# Altium footprint library STL.PcbLib: 40 footprints (part 3 of 3)
Each footprint in its own frame and in the unit in brackets; x right, y up, seen from the top. Pads: shape width x height; smd on the part's side, far side on the other; paste and mask are expansions set on the pad; w line width, h text height; cw(c..) or ccw(c..) is an arc to the next point about the centre after c.
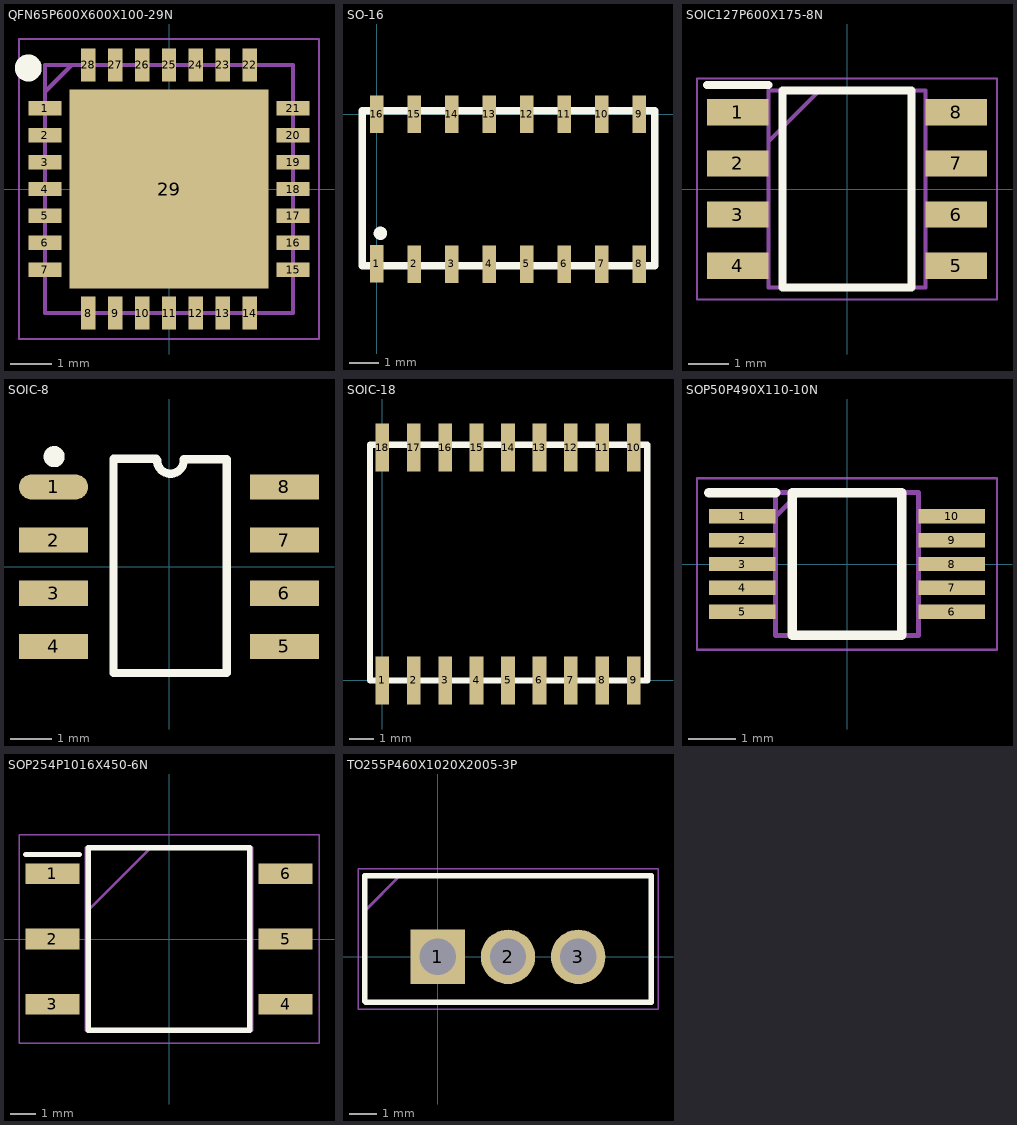
[diagram p2: the footprints below, top view; thin cyan lines are the x and y axes]

## QFN65P600X600X100-29N [mm]
pads (29):
  rect 0.8x0.35 smd: 1(-3,1.95) 2(-3,1.3) 3(-3,0.65) 4(-3,0) 5(-3,-0.65) 6(-3,-1.3) 7(-3,-1.95) 15(3,-1.95) 16(3,-1.3) 17(3,-0.65) 18(3,0) 19(3,0.65) 20(3,1.3) 21(3,1.95)
  rect 0.35x0.8 smd: 8(-1.95,-3) 9(-1.3,-3) 10(-0.65,-3) 11(0,-3) 12(0.65,-3) 13(1.3,-3) 14(1.95,-3) 22(1.95,3) 23(1.3,3) 24(0.65,3) 25(0,3) 26(-0.65,3) 27(-1.3,3) 28(-1.95,3)
  rect 4.8x4.8 smd: 29(0,0)
Top Overlay:
  circle w0.325: c-3.401,2.925 r0.162
Mechanical 13:
  lines w0.1: -3,2.35 -2.35,3 ; -3,-3 -3,3 3,3 3,-3 -3,-3
Mechanical 15:
  lines w0.05: -3.625,-3.625 -3.625,3.625 3.625,3.625 3.625,-3.625 -3.625,-3.625
3D body "SX1276IMLTRT.stp": height 1, standoff 0, extent -3.05,-3.05 3.05,3.05

## SO-16 [mm] "SO-16 SMD COMPONENTS"
pads (16):
  rect 0.46x1.27 smd: 1(0,-5.07) 2(1.27,-5.08) 3(2.54,-5.08) 4(3.81,-5.08) 5(5.08,-5.08) 6(6.35,-5.08) 7(7.62,-5.08) 8(8.89,-5.08) 9(8.89,0) 10(7.62,0) 11(6.35,0) 12(5.08,0) 13(3.81,0) 14(2.54,0) 15(1.27,0) 16(0,0)
Top Overlay:
  circle w0.254: c0.123,-4.039 r0.1
  lines w0.254: -0.49,-5.139 9.407,-5.139 9.407,0.111 -0.49,0.111 -0.49,-5.139
3D body "User Library-SOIC127P600X175-16.STEP": height 1.65, standoff 0, extent -0.542,-5.582 9.458,0.498

## SOIC127P600X175-8N [mm]
pads (8):
  rect 1.525x0.65 smd: 1(-2.712,1.905) 2(-2.712,0.635) 3(-2.712,-0.635) 4(-2.712,-1.905) 5(2.712,-1.905) 6(2.712,-0.635) 7(2.712,0.635) 8(2.712,1.905)
Top Overlay:
  lines w0.2: -3.475,2.58 -1.95,2.58 ; -1.6,-2.45 1.6,-2.45 1.6,2.45 -1.6,2.45 -1.6,-2.45
Mechanical 13:
  lines w0.1: -1.95,1.18 -0.68,2.45 ; -1.95,-2.45 1.95,-2.45 1.95,2.45 -1.95,2.45 -1.95,-2.45
Mechanical 15:
  lines w0.05: -3.725,-2.75 3.725,-2.75 3.725,2.75 -3.725,2.75 -3.725,-2.75
3D body "NE555DR.stp": height 1.75, standoff 0, extent -3,-2.45 3,2.45

## SOIC-8 [mm]
pads (8):
  oval 1.65x0.6 smd mask+0.076: 1(-2.76,1.905)
  rect 1.65x0.6 smd mask+0.076: 2(-2.76,0.635) 3(-2.76,-0.635) 4(-2.76,-1.905) 5(2.76,-1.905) 6(2.76,-0.635) 7(2.76,0.635) 8(2.76,1.905)
Top Overlay:
  circle w0.254: c-2.745,2.629 r0.125
  lines w0.2: -0.309,2.578 -1.325,2.578 -1.325,-2.54 1.38,-2.54 1.38,2.565 0.352,2.565 ; -0.284,2.54 ccw(c0.034,2.54) 0.352,2.54
3D body "User Library-SOIC-8.STEP": height 1.75, standoff 0, extent -2.978,-2.5 3.033,2.5

## SOIC-18 [mm] "SO-16 SMD COMPONENTS"
pads (18):
  rect 0.55x1.95 smd: 1(0,0) 2(1.27,0) 3(2.54,0) 4(3.81,0) 5(5.08,0) 6(6.35,0) 7(7.62,0) 8(8.89,0) 9(10.16,0) 10(10.16,9.4) 11(8.89,9.4) 12(7.62,9.4) 13(6.35,9.4) 14(5.08,9.4) 15(3.81,9.4) 16(2.54,9.4) 17(1.27,9.4) 18(0,9.4)
Top Overlay:
  circle w0.254: c0.05,0.65 r0.1
  lines w0.254: -0.49,0 -0.49,9.511 10.7,9.511 10.7,0 -0.49,0
3D body "User Library-SOIC-18-300.STEP": height 2.59, standoff -0.01, extent -0.825,-0.55 10.925,10.05

## SOP50P490X110-10N [mm]
pads (10):
  rect 1.4x0.3 smd: 1(-2.2,1) 2(-2.2,0.5) 3(-2.2,0) 4(-2.2,-0.5) 5(-2.2,-1) 6(2.2,-1) 7(2.2,-0.5) 8(2.2,0) 9(2.2,0.5) 10(2.2,1)
Top Overlay:
  lines w0.2: -2.9,1.5 -1.5,1.5 ; -1.15,-1.5 1.15,-1.5 1.15,1.5 -1.15,1.5 -1.15,-1.5
Mechanical 13:
  lines w0.1: -1.5,1 -1,1.5 ; -1.5,-1.5 1.5,-1.5 1.5,1.5 -1.5,1.5 -1.5,-1.5
Mechanical 15:
  lines w0.05: -3.15,-1.8 3.15,-1.8 3.15,1.8 -3.15,1.8 -3.15,-1.8
3D body "ADS1115BQDGSRQ1.stp": height 1.1, standoff 0, extent -2.45,-1.5 2.45,1.5

## SOP254P1016X450-6N [mm]
pads (6):
  rect 2.1x0.8 smd: 1(-4.55,2.54) 2(-4.55,0) 3(-4.55,-2.54) 4(4.55,-2.54) 5(4.55,0) 6(4.55,2.54)
Top Overlay:
  lines w0.2: -5.6,3.29 -3.5,3.29 ; -3.15,-3.56 -3.15,3.56 3.15,3.56 3.15,-3.56 -3.15,-3.56
Mechanical 13:
  lines w0.1: -3.25,1.02 -0.71,3.56 ; -3.25,-3.56 -3.25,3.56 3.25,3.56 3.25,-3.56 -3.25,-3.56
Mechanical 15:
  lines w0.05: -5.85,-4.06 -5.85,4.06 5.85,4.06 5.85,-4.06 -5.85,-4.06
3D body "MOC3021SM.stp": height 4.5, standoff 0, extent -5.08,-3.56 5.08,3.56

## TO255P460X1020X2005-3P [mm]
pads (3):
  rect 1.98x1.98 hole 1.32: 1(0,0)
  round 1.98 hole 1.32: 2(2.55,0) 3(5.1,0)
Top Overlay:
  lines w0.2: -2.65,-1.615 -2.615,-1.65 7.75,-1.65 7.75,2.95 -2.65,2.95 -2.65,0 -2.65,-1.615
Mechanical 13:
  lines w0.1: -2.65,1.675 -1.375,2.95 ; -2.65,-1.65 -2.65,2.95 7.75,2.95 7.75,-1.65 -2.65,-1.65
Mechanical 15:
  lines w0.05: -2.9,-1.9 -2.9,3.2 8,3.2 8,-1.9 -2.9,-1.9
3D body "BTA12-600BRG.stp": height 19.3, standoff -18.3, extent -2.55,-1.65 7.65,2.95